# Altium footprint library SD_PCB.PCBLIB: 1 footprints
Each footprint in its own frame and in the unit in brackets; x right, y up, seen from the top. Pads: shape width x height; smd on the part's side, far side on the other; paste and mask are expansions set on the pad; w line width, h text height; cw(c..) or ccw(c..) is an arc to the next point about the centre after c.
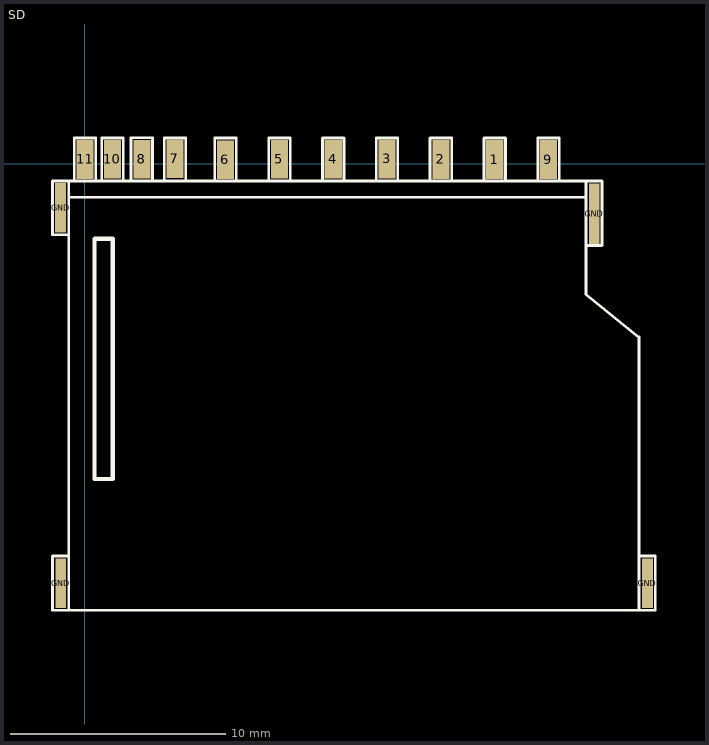
[diagram p0: the footprint, top view; thin cyan lines are the x and y axes]

## SD [mm]
pads (15):
  rect 0.8x1.8 smd: 1(19.04,0.196) 2(16.54,0.206) 3(14.04,0.226) 4(11.54,0.216) 5(9.04,0.216) 6(6.53,0.186) 7(4.18,0.236) 8(2.65,0.216) 9(21.53,0.196) 10(1.28,0.216) 11(0.01,0.206)
  rect 0.5x2.3 smd: GND(-1.13,-2.044)
  rect 0.5x2.305 smd: GND(-1.12,-19.479) GND(26.13,-19.479)
  rect 0.5x2.8 smd: GND(23.66,-2.314)
TopOverlay:
  lines w0.127: -1.506,-20.739 -0.756,-20.739 -0.756,-1.548 ; -1.506,-20.723 -1.506,-18.223 -0.756,-18.223 -0.756,-20.723 ; -0.756,-1.564 cw(c-0.732,-1.589) -0.732,-1.554 -0.406,-1.554 23.277,-1.554 ; -0.713,-20.739 25.787,-20.739 ; 5.927,-1.548 6.927,-1.548 ; 6.037,-0.798 6.037,1.202 7.037,1.202 7.037,-0.798 ; 8.427,-1.548 9.427,-1.548 ; 8.537,-0.798 8.537,1.202 9.537,1.202 9.537,-0.798 ; 10.927,-1.548 11.927,-1.548 ; 11.037,-0.798 11.037,1.202 12.037,1.202 12.037,-0.798 ; 13.427,-1.548 14.427,-1.548 ; 13.537,-0.798 13.537,1.202 14.537,1.202 14.537,-0.798 ; 15.927,-1.548 16.927,-1.548 ; 16.037,-0.798 16.037,1.202 17.037,1.202 17.037,-0.798 ; 18.427,-1.548 19.427,-1.548 ; 18.537,-0.798 18.537,1.202 19.537,1.202 19.537,-0.798 ; 20.927,-1.548 21.927,-1.548 ; 21.037,-0.798 21.037,1.202 22.037,1.202 22.037,-0.798 ; 23.277,-1.564 23.277,-6.064 25.74,-8.064 ; 23.677,-0.798 -0.756,-0.798 ; 25.744,-20.723 25.744,-18.223 26.494,-18.223 26.494,-20.723 ; 25.744,-8.039 25.744,-20.739 26.494,-20.739 ; -0.756,-0.798 -1.506,-0.798 -1.506,-3.298 -0.756,-3.298 -0.756,-0.798 ; -0.493,-0.798 0.507,-0.798 0.507,1.202 -0.493,1.202 -0.493,-0.798 ; 0.783,-0.798 1.783,-0.798 1.783,1.202 0.783,1.202 0.783,-0.798 ; 2.139,-0.788 3.139,-0.788 3.139,1.212 2.139,1.212 2.139,-0.788 ; 3.684,-0.798 4.684,-0.798 4.684,1.202 3.684,1.202 3.684,-0.798 ; 23.277,-3.798 24.027,-3.798 24.027,-0.798 23.277,-0.798 23.277,-3.798
  lines w0.2: 0.45,-14.644 1.29,-14.644 1.29,-3.474 0.47,-3.474 0.45,-3.494 0.45,-14.644